# Altium footprint library MMS-110-02-F-DH.PcbLib: 1 footprints
Each footprint in its own frame and in the unit in brackets; x right, y up, seen from the top. Pads: shape width x height; smd on the part's side, far side on the other; paste and mask are expansions set on the pad; w line width, h text height; cw(c..) or ccw(c..) is an arc to the next point about the centre after c.
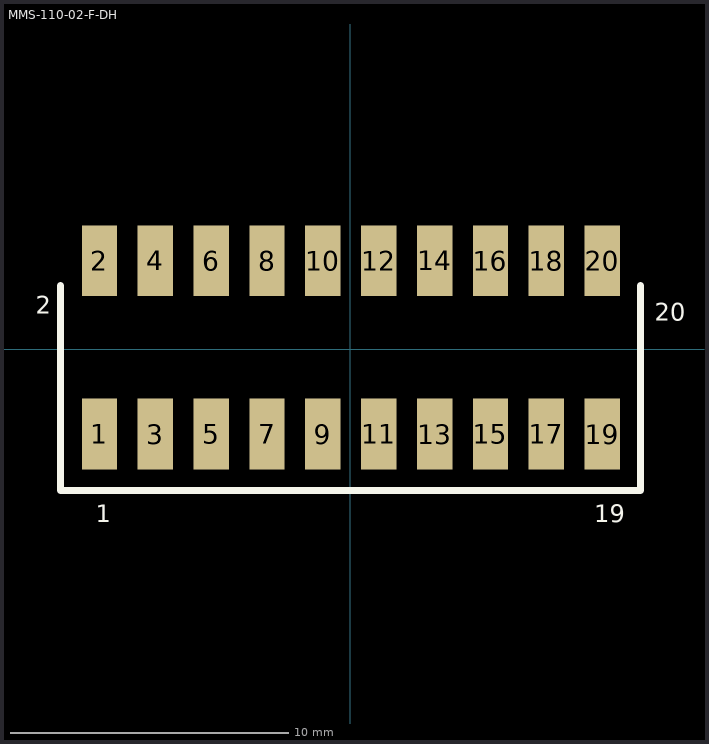
[diagram p0: the footprint, top view; thin cyan lines are the x and y axes]

## MMS-110-02-F-DH [mil]
pads (20):
  rect 50x100 smd: 1(-355,-120) 2(-355,125) 3(-276,-120) 4(-276,125) 5(-197,-120) 6(-197,125) 7(-118,-120) 8(-118,125) 9(-39,-120) 10(-39,125) 11(40,-120) 12(40,125) 13(119,-120) 14(119,125) 15(198,-120) 16(198,125) 17(277,-120) 18(277,125) 19(356,-120) 20(356,125)
TopOverlay:
  lines w10: -410,90 -410,-200 0,-200 410,-200 410,90
  text "1" at -360,-245 h25
  text "2" at -445,50 h25
  text "20" at 430,40 h25
  text "19" at 345,-245 h25
3D body: height 178.7, standoff 2.7, extent -398.35,-135 398.35,149.99